# Altium integrated library AD9833BRM-REEL7.IntLib: 1 symbol
Pins are listed as number, name and electrical type; pins without a type are passive.

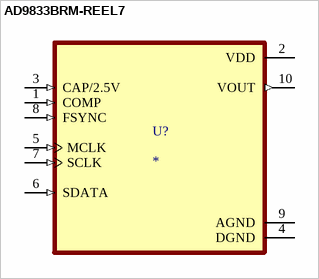
[diagram p0: symbol AD9833BRM-REEL7]

## AD9833BRM-REEL7
designator U?
Direct Digital Synthesis IC 10 b 25 MHz 28 b Tuning 10-MSOP; MF: Analog Devices; MP: AD9833BRM-REEL7; SnapEDA_Link: https://www.snapeda.com/parts/AD9833BRM-REEL7/Analog+Devices/view-part/?ref=snap; Package: MSOP-10 Analog Devices; Value: *; Check_prices: https://www.snapeda.com/parts/AD9833BRM-REEL7/Analog+Devices/view-part/?ref=eda
footprint SOP50P490X110-10N
pins: 1 COMP (in), 2 VDD (power), 3 CAP/2.5V (in), 4 DGND (power), 5 MCLK (in), 6 SDATA (in), 7 SCLK (in), 8 FSYNC (in), 9 AGND (power), 10 VOUT (out)